# Altium footprint library Modbus TCP.PcbLib: 22 footprints (part 1 of 2)
Each footprint in its own frame and in the unit in brackets; x right, y up, seen from the top. Pads: shape width x height; smd on the part's side, far side on the other; paste and mask are expansions set on the pad; w line width, h text height; cw(c..) or ccw(c..) is an arc to the next point about the centre after c.
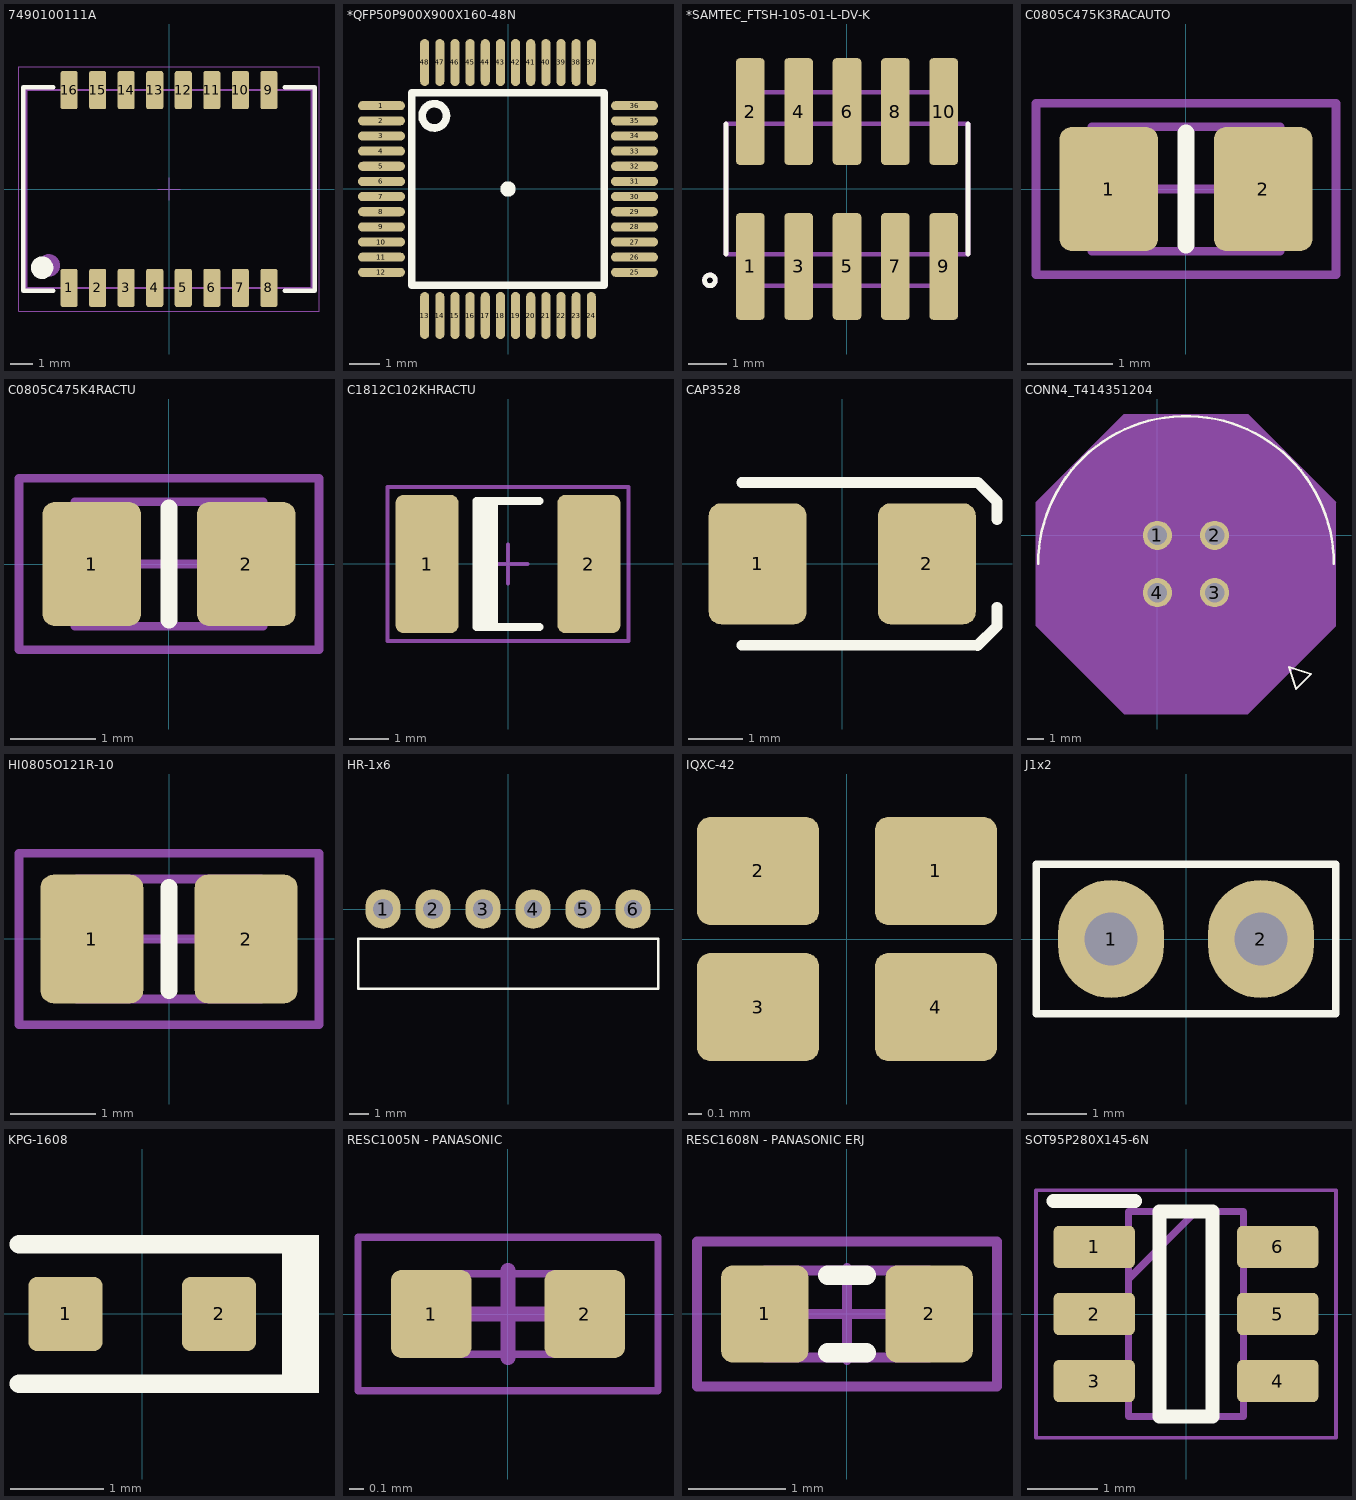
[diagram p0: the footprints below, top view; thin cyan lines are the x and y axes]

## 7490100111A [mm] "SMD LAN Transformers, body 12.7x8.8mm, 16-Leads"
height 6.35
pads (16):
  rrect25% 0.76x1.7 smd: 1(-4.445,-4.4) 2(-3.175,-4.4) 3(-1.905,-4.4) 4(-0.635,-4.4) 5(0.635,-4.4) 6(1.905,-4.4) 7(3.175,-4.4) 8(4.445,-4.4) 9(4.445,4.4) 10(3.175,4.4) 11(1.905,4.4) 12(0.635,4.4) 13(-0.635,4.4) 14(-1.905,4.4) 15(-3.175,4.4) 16(-4.445,4.4)
Top Overlay:
  circle w0.5: c-5.65,-3.5 r0.25
  lines w0.2: -5.15,-4.525 -6.475,-4.525 -6.475,4.525 -5.15,4.525 ; 5.15,-4.525 6.475,-4.525 6.475,4.525 5.15,4.525
Mechanical 13:
  circle w0.5: c-5.35,-3.4 r0.25
  lines w0.1: -6.35,-4.4 6.35,-4.4 6.35,4.4 -6.35,4.4 -6.35,-4.4
Mechanical 15:
  lines w0.05: -0.5,0 0.5,0 ; 0,-0.5 0,0.5 ; -6.675,-5.45 -6.675,5.45 6.675,5.45 6.675,-5.45 -6.675,-5.45
3D body "7490100111A.stp": height 6.35, standoff 0, extent -6.35,-4.7 6.35,4.7

## *QFP50P900X900X160-48N [mm]
pads (48):
  oval 1.55x0.3 smd mask+0.04: 1(-4.179,2.75) 2(-4.179,2.25) 3(-4.179,1.75) 4(-4.179,1.25) 5(-4.179,0.75) 6(-4.179,0.25) 7(-4.179,-0.25) 8(-4.179,-0.75) 9(-4.179,-1.25) 10(-4.179,-1.75) 11(-4.179,-2.25) 12(-4.179,-2.75) 25(4.171,-2.75) 26(4.171,-2.25) 27(4.171,-1.75) 28(4.171,-1.25) 29(4.171,-0.75) 30(4.171,-0.25) 31(4.171,0.25) 32(4.171,0.75) 33(4.171,1.25) 34(4.171,1.75) 35(4.171,2.25) 36(4.171,2.75)
  oval 0.3x1.55 smd mask+0.04: 13(-2.754,-4.175) 14(-2.254,-4.175) 15(-1.754,-4.175) 16(-1.254,-4.175) 17(-0.754,-4.175) 18(-0.254,-4.175) 19(0.246,-4.175) 20(0.746,-4.175) 21(1.246,-4.175) 22(1.746,-4.175) 23(2.246,-4.175) 24(2.746,-4.175) 37(2.746,4.175) 38(2.246,4.175) 39(1.746,4.175) 40(1.246,4.175) 41(0.746,4.175) 42(0.246,4.175) 43(-0.254,4.175) 44(-0.754,4.175) 45(-1.254,4.175) 46(-1.754,4.175) 47(-2.254,4.175) 48(-2.754,4.175)
Top Overlay:
  circle w0.254: c-2.436,2.413 r0.4
  circle w0.254: c-0.004,0 r0.127
  lines w0.254: -3.179,-3.175 3.171,-3.175 3.171,3.175 -3.179,3.175 -3.179,-3.175
3D body "User Library-lqfp48-1.STEP": height 1.5, standoff 0.02, extent -4.504,-4.5 4.496,4.5

## *SAMTEC_FTSH-105-01-L-DV-K [mm]
pads (10):
  rrect25% 0.75x2.8 smd: 1(-2.54,-2.035) 2(-2.54,2.035) 3(-1.27,-2.035) 4(-1.27,2.035) 5(0,-2.035) 6(0,2.035) 7(1.27,-2.035) 8(1.27,2.035) 9(2.54,-2.035) 10(2.54,2.035)
Top Overlay:
  circle w0.127: c-3.6,-2.4 r0.141
  lines w0.127: -3.175,-1.715 -3.175,1.715 ; 3.175,-1.715 3.175,1.715
Mechanical 4:
  circle w0.127: c-3.6,-2.4 r0.141
  circle w0.127: c-3.6,-2.4 r0.141
  lines w0.127: -3.175,-1.715 -2.54,-1.715 ; -3.175,-1.715 -3.175,1.715 ; -3.175,-1.715 -2.54,-1.715 ; -3.175,-1.715 -3.175,1.715 ; -3.175,1.715 -2.54,1.715 ; -3.175,1.715 -2.54,1.715 ; -2.54,-2.54 2.54,-2.54 ; -2.54,-2.54 -2.54,-1.715 ; -2.54,-2.54 2.54,-2.54 ; -2.54,-2.54 -2.54,-1.715 ; -2.54,-1.715 2.54,-1.715 ; -2.54,-1.715 2.54,-1.715 ; -2.54,1.715 -2.54,2.54 ; -2.54,1.715 2.54,1.715 ; -2.54,1.715 -2.54,2.54 ; -2.54,1.715 2.54,1.715 ; -2.54,2.54 2.54,2.54 ; -2.54,2.54 2.54,2.54 ; 2.54,-2.54 2.54,-1.715 ; 2.54,-2.54 2.54,-1.715 ; 2.54,-1.715 3.175,-1.715 ; 2.54,-1.715 3.175,-1.715 ; 2.54,1.715 2.54,2.54 ; 2.54,1.715 3.175,1.715 ; 2.54,1.715 2.54,2.54 ; 2.54,1.715 3.175,1.715 ; 3.175,-1.715 3.175,1.715 ; 3.175,-1.715 3.175,1.715
3D body "FTSH-105-01-L-DV-K.stp": height 6.13, standoff 0.01, extent -3.175,-2.921 3.175,2.921

## C0805C475K3RACAUTO [mm] "Chip Capacitor, Body 2.0x1.25mm, IPC Medium Density"
height 1.25
pads (2):
  rrect25% 1.15x1.45 smd: 1(-0.9,0) 2(0.9,0)
Top Overlay:
  lines w0.2: 0,-0.65 0,0.65
Mechanical 13:
  lines w0.1: -1.1,-0.725 1.1,-0.725 1.1,0.725 -1.1,0.725 -1.1,-0.725
Mechanical 15:
  lines w0.1: -0.5,0 0.5,0 ; 0,-0.5 0,0.5 ; -1.75,-1 1.75,-1 1.75,1 -1.75,1 -1.75,-1
3D body "KEMET C0805C475K3RACAUTO.step": height 1.45, standoff 0, extent -1.15,-0.725 1.15,0.725

## C0805C475K4RACTU [mm] "Chip Capacitor, Body 2.0x1.25mm, IPC Medium Density"
height 1.25
pads (2):
  rrect25% 1.15x1.45 smd: 1(-0.9,0) 2(0.9,0)
Top Overlay:
  lines w0.2: 0,-0.65 0,0.65
Mechanical 13:
  lines w0.1: -1.1,-0.725 1.1,-0.725 1.1,0.725 -1.1,0.725 -1.1,-0.725
Mechanical 15:
  lines w0.1: -0.5,0 0.5,0 ; 0,-0.5 0,0.5 ; -1.75,-1 1.75,-1 1.75,1 -1.75,1 -1.75,-1
3D body "C0805C475K4RACTU.step": height 1.4, standoff 0, extent -1.1,-0.725 1.1,0.725

## C1812C102KHRACTU [mm] "Chip Capacitor, Body 4.5x3.2mm, IPC Medium Density"
height 1.6
pads (2):
  rrect25% 1.6x3.5 smd: 1(-2.05,0) 2(2.05,0)
Top Overlay:
  rectangle: -0.8,-1.6 -0.25,1.6
  lines w0.2: 0.8,-1.6 -0.8,-1.6 -0.8,1.6 0.8,1.6
Mechanical 15:
  lines w0.1: -0.5,0 0.5,0 ; 0,-0.5 0,0.5 ; -3.05,-1.95 3.05,-1.95 3.05,1.95 -3.05,1.95 -3.05,-1.95
3D body "KEMET C1812C102KHRACTU.step": height 1.81, standoff 0.01, extent -2.4,-1.75 2.4,1.75

## CAP3528 [mm] "Capacitor, SM Tantalum; Body 3.5 x 2.8 mm (LxW typ)"
height 2.1
pads (2):
  rrect25% 1.8x2.23 smd: 1(-1.56,0) 2(1.56,0)
Top Overlay:
  lines w0.2: -1.85,-1.5 1.85,-1.5 2.493,-1.507 2.85,-1.15 2.85,-0.8 ; -1.85,1.5 1.85,1.5 2.5,1.5 2.85,1.15 2.85,0.817
3D body "KEMET T494B106M016AT.step": height 2.12, standoff 0.01, extent -1.85,-1.5 1.85,1.5

## CONN4_T414351204 [mm]
pads (4):
  round 1.8 / inner round 1.702 / far side round 1.702 hole 1.2 mask+0: 1(0,0) 2(3.536,0) 3(3.536,-3.536) 4(0,-3.536)
Top Overlay:
  lines w0.127: 8.135,-8.135 9.467,-8.571 ; 8.135,-8.135 8.571,-9.467 ; 8.135,-8.135 9.467,-8.571 ; 8.135,-8.135 8.571,-9.467 ; 8.571,-9.467 9.467,-8.571 ; 8.571,-9.467 9.467,-8.571
  lines w0.152: -7.364,-1.768 cw(c1.768,-1.768) 10.899,-1.768
Mechanical 13:
  circle w0: c1.768,-1.768 r9.004
Mechanical 15:
  region: -7.491,2.044 -2.044,7.491 5.58,7.491 11.026,2.044 11.026,-5.58 5.58,-11.026 -2.044,-11.026 -7.491,-5.58
  lines w0.025: -7.491,-5.58 -2.044,-11.026 5.58,-11.026 11.026,-5.58 11.026,2.044 5.58,7.491 -2.044,7.491 -7.491,2.044 -7.491,-5.58
3D body "c-t4143512041-000-a-3d.stp": height 23.01, standoff -2.99, extent -7.232,-11.714 10.768,8.179

## HI0805O121R-10 [mm] "Chip Ferrite Bead, Body 2.0x1.25mm"
height 0.9
pads (2):
  rrect25% 1.2x1.5 smd: 1(-0.9,0) 2(0.9,0)
Top Overlay:
  lines w0.2: 0,-0.6 0,0.6
Mechanical 13:
  lines w0.1: -1.075,-0.7 -1.075,0.7 1.075,0.7 1.075,-0.7 -1.075,-0.7
Mechanical 15:
  lines w0.1: -0.5,0 0.5,0 ; 0,-0.5 0,0.5 ; -1.75,-1 -1.75,1 1.75,1 1.75,-1 -1.75,-1
3D body: height 0.9, standoff 0, extent -1.075,-0.7 1.075,0.7

## HR-1x6 [mm]
pads (6):
  oval 1.8x2 hole 1: 1(-6.35,0) 2(-3.81,0) 3(-1.27,0)
  oval 1.8x2 hole 0.9: 4(1.27,0) 5(3.81,0) 6(6.35,0)
Top Overlay:
  lines w0.127: -7.62,-4.04 7.62,-4.04 7.62,-1.5 -7.62,-1.5 -7.62,-4.04
3D body "HR-1x6.STEP": height 2.54, standoff -3, extent -7.62,-10 7.62,0.325

## IQXC-42 [mm] "Quartz Crystal 4 Leads; Body 2 x 0.5 x 1.6 mm (LxWxH)"
height 0.5
pads (4):
  rrect25% 0.875x0.775 smd mask-0.1: 1(0.638,0.488) 2(-0.637,0.488) 3(-0.637,-0.487) 4(0.638,-0.487)
3D body "User Library-IQXC-42.STEP": height 0.49, standoff 0, extent -1,-0.8 1,0.8

## J1x2 [mm]
height 0.85
pads (2):
  oval 1.8x2 hole 0.9: 1(-1.27,0) 2(1.27,0)
Top Overlay:
  lines w0.127: -2.54,-1.27 -2.54,1.27 2.54,1.27 2.54,-1.27 -2.54,-1.27
3D body "HN-1x2.STEP": height 10.1, standoff -1.5, extent -2.54,-1.27 2.54,1.27

## KPG-1608 [mm] "Everlight"
height 0.25
pads (2):
  rrect25% 0.8x0.8 smd: 1(-0.825,0) 2(0.825,0)
Top Overlay:
  rectangle: 1.5,-0.85 1.9,0.85
  lines w0.2: -1.325,-0.75 1.8,-0.75 ; -1.325,0.75 1.8,0.75
3D body "APG1608.STEP": height 0.26, standoff 0.01, extent -0.8,-0.4 0.8,0.4

## RESC1005N - PANASONIC [mm] "Chip Resistor, Body 1.1x0.5mm, IPC Medium Density"
height 0.35
pads (2):
  rrect25% 0.55x0.6 smd: 1(-0.525,0) 2(0.525,0)
Mechanical 13:
  lines w0.05: -0.525,-0.275 0.525,-0.275 0.525,0.275 -0.525,0.275 -0.525,-0.275
Mechanical 15:
  lines w0.05: -1.025,-0.525 1.025,-0.525 1.025,0.525 -1.025,0.525 -1.025,-0.525
  lines w0.1: -0.3,0 0.3,0 ; 0,-0.3 0,0.3
3D body "PANASONIC ERJ-0402.step": height 0.35, standoff 0, extent -0.5,-0.25 0.5,0.25

## RESC1608N - PANASONIC ERJ [mm] "Chip Resistor, Body 1.6x0.8mm, IPC Medium Density"
height 0.6
pads (2):
  rrect25% 0.9x1 smd: 1(-0.85,0) 2(0.85,0)
Top Overlay:
  lines w0.2: -0.2,-0.4 0.2,-0.4 ; -0.2,0.4 0.2,0.4
Mechanical 13:
  lines w0.1: -0.85,-0.45 0.85,-0.45 0.85,0.45 -0.85,0.45 -0.85,-0.45
Mechanical 15:
  lines w0.1: -0.475,0 0.475,0 ; 0,-0.475 0,0.475 ; -1.55,-0.75 1.55,-0.75 1.55,0.75 -1.55,0.75 -1.55,-0.75
3D body "PANASONIC ERJ-0603.step": height 0.45, standoff 0, extent -0.8,-0.4 0.8,0.4

## SOT95P280X145-6N [mm]
pads (6):
  rrect25% 1.15x0.6 smd: 1(-1.3,0.95) 2(-1.3,0) 3(-1.3,-0.95) 4(1.3,-0.95) 5(1.3,0) 6(1.3,0.95)
Top Overlay:
  lines w0.2: -1.875,1.6 -0.725,1.6 ; -0.375,-1.45 0.375,-1.45 0.375,1.45 -0.375,1.45 -0.375,-1.45
Mechanical 13:
  lines w0.1: -0.812,0.5 0.138,1.45 ; -0.812,-1.45 0.812,-1.45 0.812,1.45 -0.812,1.45 -0.812,-1.45
Mechanical 15:
  lines w0.05: -2.125,-1.75 2.125,-1.75 2.125,1.75 -2.125,1.75 -2.125,-1.75
3D body "SRV05-4HTG.stp": height 1.45, standoff 0, extent -1.4,-1.45 1.4,1.45